# Altium footprint library PcbLib1.PcbLib: 4 footprints
Each footprint in its own frame and in the unit in brackets; x right, y up, seen from the top. Pads: shape width x height; smd on the part's side, far side on the other; paste and mask are expansions set on the pad; w line width, h text height; cw(c..) or ccw(c..) is an arc to the next point about the centre after c.
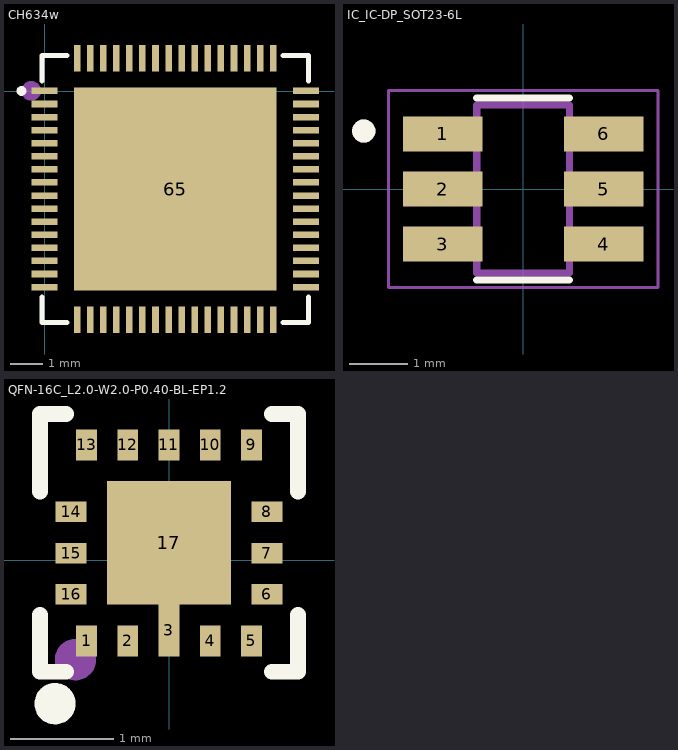
[diagram p0: the footprints below, top view; thin cyan lines are the x and y axes]

## CH634w [mm]
pads (65):
  rect 0.8x0.2 smd paste-100 mask+0.051: 1(-0.012,0.003) 2(-0.012,-0.397) 3(-0.012,-0.797) 4(-0.012,-1.197) 5(-0.012,-1.597) 6(-0.012,-1.997) 7(-0.012,-2.397) 8(-0.012,-2.797) 9(-0.012,-3.197) 10(-0.012,-3.597) 11(-0.012,-3.997) 12(-0.012,-4.397) 13(-0.012,-4.797) 14(-0.012,-5.197) 15(-0.012,-5.597) 16(-0.012,-5.997) 33(7.988,-5.997) 34(7.988,-5.597) 35(7.988,-5.197) 36(7.988,-4.797) 37(7.988,-4.397) 38(7.988,-3.997) 39(7.988,-3.597) 40(7.988,-3.197) 41(7.988,-2.797) 42(7.988,-2.397) 43(7.988,-1.997) 44(7.988,-1.597) 45(7.988,-1.197) 46(7.988,-0.797) 47(7.988,-0.397) 48(7.988,0.003)
  rect 0.2x0.8 smd paste-100 mask+0.051: 17(0.988,-6.997) 18(1.388,-6.997) 19(1.788,-6.997) 20(2.188,-6.997) 21(2.588,-6.997) 22(2.988,-6.997) 23(3.388,-6.997) 24(3.788,-6.997) 25(4.188,-6.997) 26(4.588,-6.997) 27(4.988,-6.997) 28(5.388,-6.997) 29(5.788,-6.997) 30(6.188,-6.997) 31(6.588,-6.997) 32(6.988,-6.997) 49(6.988,1.003) 50(6.588,1.003) 51(6.188,1.003) 52(5.788,1.003) 53(5.388,1.003) 54(4.988,1.003) 55(4.588,1.003) 56(4.188,1.003) 57(3.788,1.003) 58(3.388,1.003) 59(2.988,1.003) 60(2.588,1.003) 61(2.188,1.003) 62(1.788,1.003) 63(1.388,1.003) 64(0.988,1.003)
  rect 6.2x6.2 smd paste-100 mask+0.051: 65(3.988,-2.997)
Top Overlay:
  circle w0.15: c-0.712,0.003 r0.075
  lines w0.152: -0.088,-6.3 -0.088,-7.073 0.686,-7.073 ; -0.088,0.305 -0.088,1.079 0.686,1.079 ; 7.291,-7.073 8.065,-7.073 8.065,-6.3 ; 7.291,1.079 8.065,1.079 8.065,0.305
Top Paste:
  drawing of 65 lines, arcs and shapes, not listed
Mechanical 15:
  circle w0.3: c-0.412,0.003 r0.15
3D body "User Library-QFN64_8x8.STEP": height 0.81, standoff 0, extent 0.009,-6.985 8.009,1.015

## IC_IC-DP_SOT23-6L [mm]
height 1.3
pads (6):
  rect 1.375x0.6 smd: 1(-1.389,0.95) 2(-1.389,0) 3(-1.389,-0.95) 4(1.389,-0.95) 5(1.389,0) 6(1.389,0.95)
Top Overlay:
  circle w0.2: c-2.75,1 r0.1
  lines w0.127: -0.8,-1.57 0.8,-1.57 ; -0.8,1.57 0.8,1.57
Mechanical 13:
  circle w0.2: c-2.75,1 r0.1
  lines w0.127: -0.8,-1.45 -0.8,1.45 0.8,1.45 0.8,-1.45 -0.8,-1.45
Mechanical 15:
  lines w0.05: -2.326,-1.7 2.326,-1.7 2.326,1.7 -2.326,1.7 -2.326,-1.7
3D body "step_temp.STEP": height 1.3, standoff 0, extent -1.4,-1.45 1.4,1.45

## PCBComponent_1 [mm]

## QFN-16C_L2.0-W2.0-P0.40-BL-EP1.2 [mm]
pads (17):
  rect 0.2x0.3 smd paste-100 mask+0.051: 1(-0.8,-0.783) 2(-0.4,-0.783) 4(0.4,-0.783) 5(0.8,-0.783) 9(0.8,1.117) 10(0.4,1.117) 11(0,1.117) 12(-0.4,1.117) 13(-0.8,1.117)
  rect 0.2x0.5 smd paste-100 mask+0.051: 3(0,-0.683)
  rect 0.3x0.2 smd paste-100 mask+0.051: 6(0.95,-0.333) 7(0.95,0.067) 8(0.95,0.467) 14(-0.95,0.467) 15(-0.95,0.067) 16(-0.95,-0.333)
  rect 1.2x1.2 smd paste-100 mask+0.051: 17(0,0.167)
Top Overlay:
  circle w0.2: c-1.105,-1.393 r0.1
  lines w0.154: -1.25,-0.533 -1.25,-1.083 -0.999,-1.083 ; -1.25,0.666 -1.25,1.417 -1,1.417 ; 0.999,-1.083 1.25,-1.083 1.25,-0.533 ; 1,1.417 1.25,1.417 1.25,0.666
Top Paste:
  region: -0.3,-0.933 -0.3,-0.633 -0.5,-0.633 -0.5,-0.933
  region: 0.5,-0.933 0.5,-0.633 0.3,-0.633 0.3,-0.933
  region: -0.9,-0.633 -0.9,-0.933 -0.7,-0.933 -0.7,-0.633
  region: 0.9,-0.933 0.9,-0.633 0.7,-0.633 0.7,-0.933
  region: 1.1,-0.433 1.1,-0.233 0.8,-0.233 0.8,-0.433
  region: -1.1,-0.233 -1.1,-0.433 -0.8,-0.433 -0.8,-0.233
  region: 1.1,-0.033 1.1,0.167 0.8,0.167 0.8,-0.033
  region: -1.1,0.167 -1.1,-0.033 -0.8,-0.033 -0.8,0.167
  region: 1.1,0.367 1.1,0.567 0.8,0.567 0.8,0.367
  region: -1.1,0.567 -1.1,0.367 -0.8,0.367 -0.8,0.567
  region: -0.9,1.267 -0.9,0.967 -0.7,0.967 -0.7,1.267
  region: -0.5,1.267 -0.5,0.967 -0.3,0.967 -0.3,1.267
  region: -0.1,1.267 -0.1,0.967 0.1,0.967 0.1,1.267
  region: 0.3,1.267 0.3,0.967 0.5,0.967 0.5,1.267
  region: 0.9,0.967 0.9,1.267 0.7,1.267 0.7,0.967
  region: 0.6,-0.433 0.6,0.767 -0.6,0.767 -0.6,-0.433 -0.1,-0.433 -0.1,-0.933 0.1,-0.933 0.1,-0.433
Mechanical 15:
  circle w0.2: c-0.907,-0.966 r0.1
3D body: height 0.7, standoff 0, extent -1.27,-1.072 1.27,1.397